# Altium schematic symbol library MCP1624.Schlib: 1 symbol
Pins are listed as number, name and electrical type; pins without a type are passive.

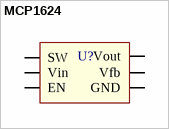
[diagram p0: symbol MCP1624]

## MCP1624
designator U?
IC REG BOOST 2V0-5V5 500kHz
pins: 1 SW, 2 GND, 3 EN, 4 Vfb, 5 Vout, 6 Vin